# Altium schematic symbol library Transistors.SchLib: 6 symbols
Pins are listed as number, name and electrical type; pins without a type are passive.

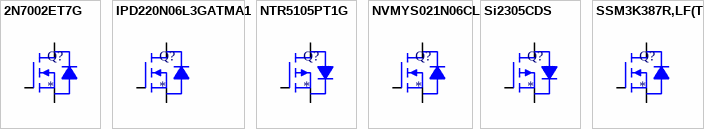
[diagram p0: symbols 2N7002ET7G to SSM3K387R,LF(T]

## 2N7002ET7G
designator Q?
N-Channel 60 V 260mA (Ta) 300mW (Tj) Surface Mount SOT-23-3 (TO-236)
footprint SOT-23-3
pins: 1 G, 2 S, 3 D

## IPD220N06L3GATMA1
designator Q?
N-Channel 60 V 30A (Tc) 36W (Tc) Surface Mount PG-TO252-3-311
footprint DPAK-3 (TO-252-3)
pins: 1 G, 2 D, 3 S

## NTR5105PT1G
designator Q?
P-Channel 60 V 196mA (Ta) 347mW (Ta) Surface Mount SOT-23-3 (TO-236)
footprint SOT-23-3
pins: 1 G, 2 S, 3 D

## NVMYS021N06CL
designator Q?
N-Channel 60 V 9.8A (Ta), 27A (Tc) 3.8W (Ta), 28W (Tc) Surface Mount LFPAK4 (5x6)
footprint LFPAK-4 (SOT-1023)
pins: 1 S, 2 S hidden, 3 S hidden, 4 G, 5 D, 6 D hidden, 7 D hidden, 8 D hidden

## Si2305CDS
designator Q?
pins: 1 G, 2 S, 3 D

## SSM3K387R,LF(T
designator Q?
N-Channel 100 V 2A (Ta) 1W (Ta) Surface Mount SOT-23F
footprint SOT-23F (SOT-23-3 Flat Lead Version)
pins: 1 G, 2 S, 3 D